# EAGLE library part L6387E (library st)
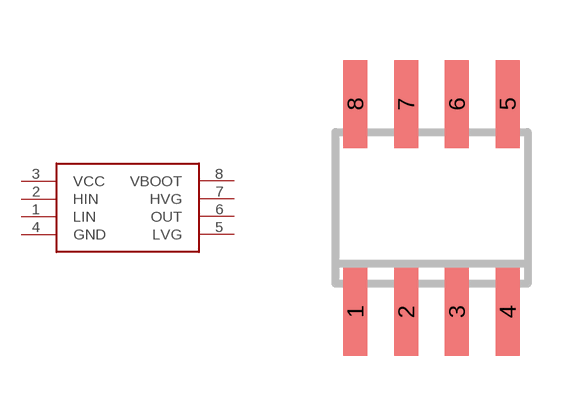
[diagram p3: symbol with the pads of SO8; footprint SO8]

Designator prefix -

## L6387E  [SO8]
1  LIN
2  HIN
3  VCC  pwr
4  GND  pwr
5  LVG
6  OUT
7  HVG
8  VBOOT

## Footprint SO8 (pad centres in mm)
8-Lead Small Outline IC (SO-8) Source: http://www.analog.com/UploadedFiles/Data_Sheets/703465986AD8611_2_0.pdf
smd 0.6 x 2.2: 1 -1.905,-2.6; 2 -0.635,-2.6; 3 0.635,-2.6; 4 1.905,-2.6; 5 1.905,2.6; 6 0.635,2.6; 7 -0.635,2.6; 8 -1.905,2.6